# Altium schematic symbol library P.SchLib: 15 symbols
Pins are listed as number, name and electrical type; pins without a type are passive.

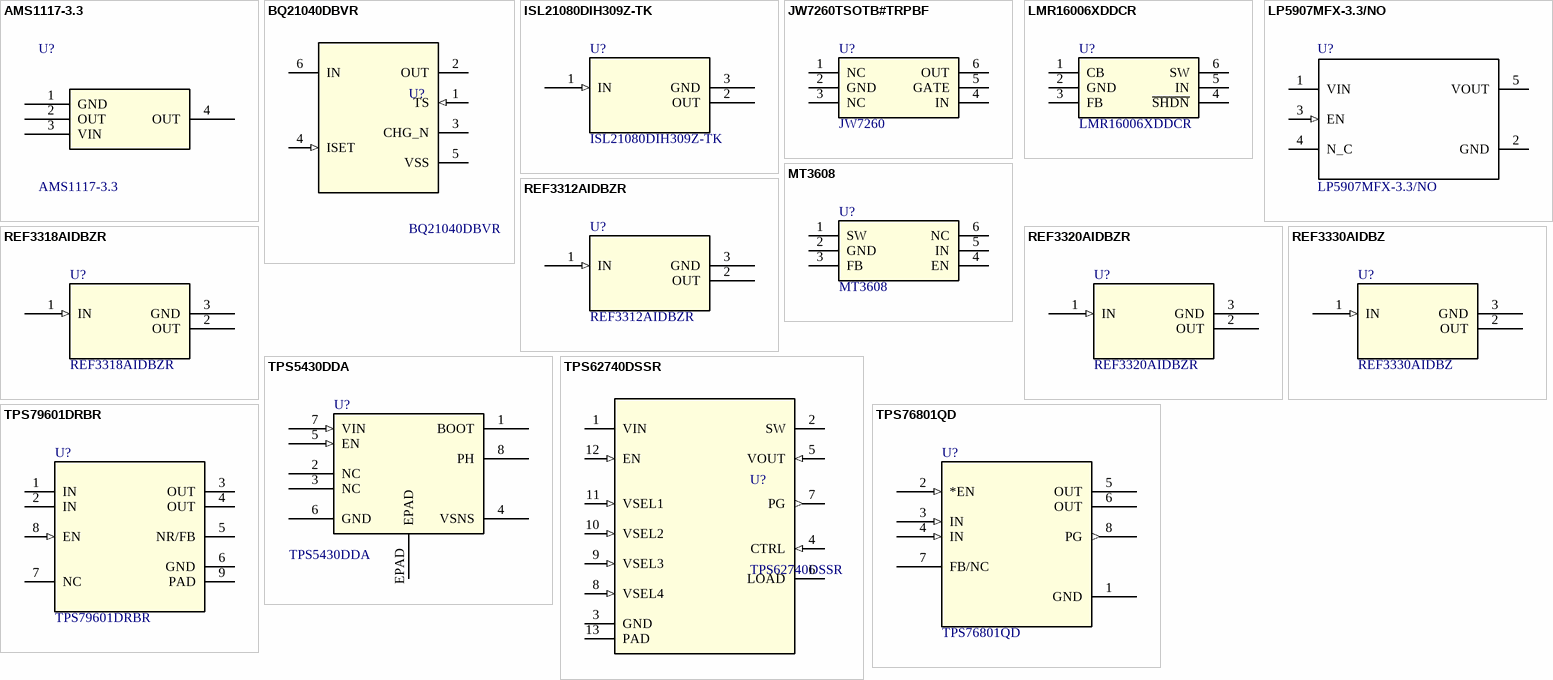
[diagram p0: symbols AMS1117-3.3 to TPS79601DRBR]

## AMS1117-3.3
designator U?
最大输入电压 15V / 压降(max) 1.3V @ 800mA / 输出电压(可调) - / 静态电流(Iq) - / 最大输出电流 1A / 工作电源电流(Max) - / 输出配置 正 / 纹波抑制(PSRR) 72dB(120Hz) / 输出类型 固定 / 输出通道数 1 / 工作温度 -40℃ ~ 125℃(TJ) / 使能脚 - / 输出电压(固定) 3.3V; Manufacturer: AMS; CompType: LDO; Code: AMS1117-3.3; DistributorCode: C6186; Package: SOT-223
footprint SOT223_L (SOT223, 4-Leads, Body 6.5x3.5mm, Pitch 2.3mm, Lead Span 7mm, IPC High Density)
pins: 1 GND (power), 2 OUT (power), 3 VIN, 4 OUT (power)

## BQ21040DBVR
designator U?
充电芯片; Manufacturer: TI(德州仪器); CompType: 电池电源管理; Code: BQ21040DBVR; DistributorCode: C202311; Package: SOT23-6
footprint USOT23-6
pins: 1 TS (in), 2 OUT (power), 3 CHG_N (oc), 4 ISET (in), 5 VSS (power), 6 IN (power)

## ISL21080DIH309Z-TK
designator U?
输出电压（最小值/固定） 0.9V / 输出电流 7mA / 输出电压（最大值） - / 输入电压 2 V ~ 5.5 V / 电源电流 1.5uA / 输出类型 固定 / 工作温度 -40°C ~ 85°C(TA) / 温度系数 50ppm/°C / 阴极电流 - / 精度 ±0.7% / 参考源类型 系列; Manufacturer: Intersil(英特矽尔); CompType: 电源参考; DistributorCode: C152443; Package: SOT23-3; Code: ISL21080DIH309Z-TK
footprint SOT-23(SOT-23-3)
pins: 1 IN (in), 2 OUT (power), 3 GND (power)

## JW7260TSOTB#TRPBF
designator U?, comment JW7260
High-side Single ORing Controller; Manufacturer: 杰华特; Code: JW7260TSOTB#TRPBF; DistributorCode: -; Package: SOT23-6; A_Code: -; A_Manufacturer: -; CompType: Oring; A_ComType: -
footprint DDC0006A_N
pins: 1 NC (power), 2 GND (power), 3 NC (power), 4 IN, 5 GATE, 6 OUT

## LMR16006XDDCR
designator U?
DC-DC芯片; Manufacturer: TI(德州仪器); Code: LMR16006XDDCR; DistributorCode: C87080; Package: SOT23-6; A_Code: -; A_Manufacturer: -; CompType: DC-DC芯片; A_ComType: -
footprint DDC0006A_N
pins: 1 CB (power), 2 GND (power), 3 FB (power), 4 ~{SHDN}, 5 IN, 6 SW

## LP5907MFX-3.3/NO
designator U?
线性稳压器(LDO) / 工作电源电流(Max) 425μA / 最大输入电压 5.5V / 压降(max) 250mV @ 250mA / 输出电压(可调) - / 静态电流(Iq) - / 最大输出电流 250mA / 输出配置 正 / 纹波抑制(PSRR) 90dB ~ 60dB(100Hz ~ 100kHz) / 输出类型 固定 / 输出通道数 1 / 工作温度 -40°C ~ 125°C / 使能脚 - / 输出电压(固定) 3.3V; Manufacturer: TI(德州仪器); Code: LP5907MFX-3.3/NOPB; CompType: LDO; DistributorCode: C80670; Package: SOT-23-5
footprint SOT23-5
pins: 1 VIN (power), 2 GND (power), 3 EN (in), 4 N_C, 5 VOUT (power)

## MT3608
designator U?
DC-DC芯片 / 输出电压（最小值/固定） - / 输出电压（最大值） 28V / 可输出电流 - / 开关工作频率 1.2MHz / 输出类型 Adjustable / 输出电压的路数 1 / 最小输入电压 2V / 最大输入电压 24V / 电源拓扑结构 Boost / 同步整流与否 - / 功能类型 Step-Up / 输出配置 Positive; Manufacturer: 西安航天民芯; Code: MT3608; DistributorCode: C84817; Package: SOT23-6; A_Code: -; A_Manufacturer: -; CompType: DC-DC芯片; A_ComType: -
footprint DDC0006A_N
pins: 1 SW (power), 2 GND (power), 3 FB (power), 4 EN, 5 IN, 6 NC

## REF3312AIDBZR
designator U?
电压参考; Manufacturer: TI(德州仪器); CompType: 电源参考; DistributorCode: C183104; Package: SOT23-3; Code: REF3312AIDBZR
footprint SOT-23(SOT-23-3)
pins: 1 IN (in), 2 OUT (power), 3 GND (power)

## REF3318AIDBZR
designator U?
电压参考; Manufacturer: TI(德州仪器); CompType: 电源参考; DistributorCode: C115877; Package: SOT23-3; Code: REF3318AIDBZR
footprint SOT-23(SOT-23-3)
pins: 1 IN (in), 2 OUT (power), 3 GND (power)

## REF3320AIDBZR
designator U?
电压参考; Manufacturer: TI(德州仪器); CompType: 电源参考; DistributorCode: C527421; Package: SOT23-3; Code: REF3320AIDBZR
footprint SOT-23(SOT-23-3)
pins: 1 IN (in), 2 OUT (power), 3 GND (power)

## REF3330AIDBZ
designator U?
电压参考; Manufacturer: TI(德州仪器); CompType: 电源参考; DistributorCode: C140329; Package: SOT23-3; Code: REF3330AIDBZ
footprint SOT-23(SOT-23-3)
pins: 1 IN (in), 2 OUT (power), 3 GND (power)

## TPS5430DDA
designator U?
输出电压（最小值/固定） 1.221V / 输出电压（最大值） 32.04V / 可输出电流 3A / 开关工作频率 500kHz / 输出类型 Adjustable / 输出电压的路数 1 / 最小输入电压 5.5V / 最大输入电压 36V / 电源拓扑结构 Buck / 同步整流与否 No / 功能类型 Step-Down / 输出配置 Positive; Manufacturer: TI(德州仪器); Code: TPS5430DDAR; CompType: DC-DC芯片; DistributorCode: C9864; Package: SO PowerPAD-8; A_Code: -; A_ComType: -; A_Manufacturer: -
footprint DDA8_3P1X2P4
pins: 1 BOOT, 2 NC, 3 NC, 4 VSNS, 5 EN (in), 6 GND (power), 7 VIN (in), 8 PH, EPAD

## TPS62740DSSR
designator U?
DCDC; Manufacturer: TI(德州仪器); CompType: 电源芯片; DistributorCode: C128606; Package: DSS0012A; Code: TPS62740DSSR
footprint DSS0012A
pins: 1 VIN (power), 2 SW (power), 3 GND (power), 4 CTRL (in), 5 VOUT (in), 6 LOAD (power), 7 PG (out), 8 VSEL4 (in), 9 VSEL3 (in), 10 VSEL2 (in), 11 VSEL1 (in), 12 EN (in), 13 PAD (power)

## TPS76801QD
designator U?
线性稳压器(LDO) / 最大输入电压 10V / 压降(max) - / 输出电压(可调) 1.2V ~ 5.5V / 静态电流(Iq) - / 最大输出电流 1A / 输出配置 正 / 纹波抑制(PSRR) 60dB(1kHz) / 输出类型 可调 / 输出通道数 1 / 工作电源电流(Max) 125μA / 工作温度 -40℃ ~ 125℃(TJ); Manufacturer: TI(德州仪器); Code: TPS76801QDR; A_Code: -; A_Manufacturer: -; DistributorCode: C20030; Package: SOIC-8; CompType: 线性稳压器(LDO); A_ComType: -
footprint SOP-8_150mil
pins: 1 GND (power), 2 *EN (in), 3 IN (in), 4 IN (in), 5 OUT, 6 OUT, 7 FB/NC, 8 PG (out)

## TPS79601DRBR
designator U?
LDO; Manufacturer: TI(德州仪器); Code: TPS79601DRB; CompType: LDO; Package: VSON-8; DistributorCode: -; A_Code: -; A_ComType: -; A_Manufacturer: -
footprint DRB0008B
pins: 1 IN (power), 2 IN (power), 3 OUT (power), 4 OUT (power), 5 NR/FB, 6 GND (power), 7 NC, 8 EN (in), 9 PAD (power)